# EAGLE library part IV-27_L (library IV-27_Lv2)
IV-27 VFD VACUUM TUBE
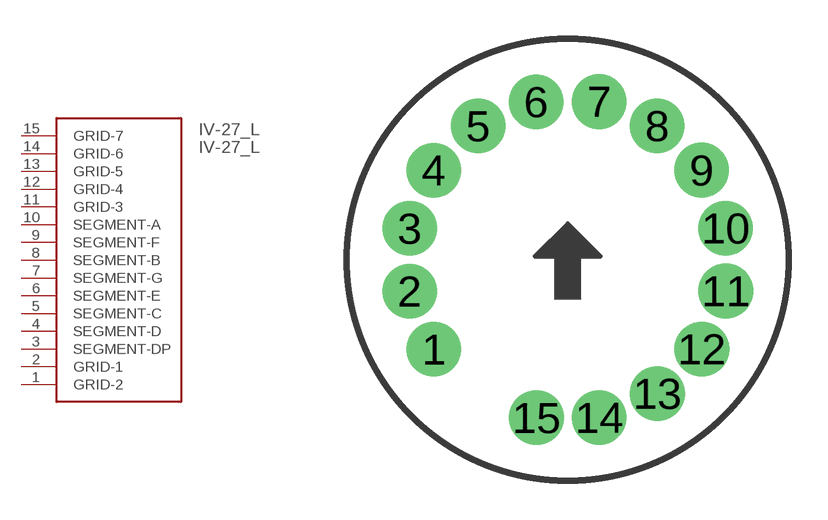
[diagram p0: symbol with the pads of IV-27_L; footprint IV-27_L]

Designator prefix IV-27_L

## IV-27_L (SIDE: LEFT)  [IV-27_L]
1  GRID-2
2  GRID-1
3  SEGMENT-DP
4  SEGMENT-D
5  SEGMENT-C
6  SEGMENT-E
7  SEGMENT-G
8  SEGMENT-B
9  SEGMENT-F
10  SEGMENT-A
11  GRID-3
12  GRID-4
13  GRID-5
14  GRID-6
15  GRID-7

## Footprint IV-27_L (pad centres in mm)
IV-27_LEFT
drill 1.4: 1 -5.149,-3.446; 2 -6.076,-1.211; 3 -6.078,1.208; 4 -5.155,3.443; 5 -3.446,5.155; 6 -1.211,6.083; 7 1.208,6.085; 8 3.443,5.161; 9 5.156,3.452; 10 6.083,1.218; 11 6.085,-1.201; 12 5.162,-3.437; 13 3.452,-5.149; 14 1.218,-6.076; 15 -1.201,-6.078